# EAGLE library part USB-C (library psiboard)
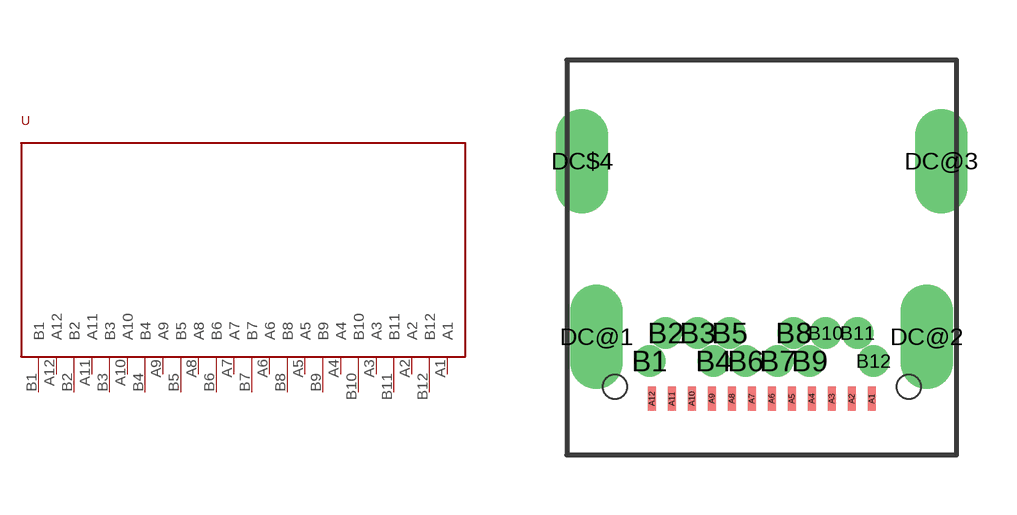
[diagram p0: symbol with the pads of USB-C; footprint USB-C]

Designator prefix -

## USB-C  [USB-C]
A1  A1
A2  A2
A3  A3
A4  A4
A5  A5
A6  A6
A7  A7
A8  A8
A9  A9
A10  A10
A11  A11
A12  A12
B1  B1
B2  B2
B3  B3
B4  B4
B5  B5
B6  B6
B7  B7
B8  B8
B9  B9
B10  B10
B11  B11
B12  B12

## Footprint USB-C (pad centres in mm)
smd 0.2 x 0.6: A1 7.625,1.4; A2 7.125,1.4; A3 6.625,1.4; A4 6.125,1.4; A5 5.625,1.4; A6 5.125,1.4; A7 4.625,1.4; A8 4.125,1.4; A9 3.625,1.4; A10 3.125,1.4; A11 2.625,1.4; A12 2.125,1.4
drill 0.28 pad 0.6: B1 2.075,2.35; B2 2.475,3.05; B3 3.275,3.05; B4 3.675,2.35; B5 4.075,3.05; B6 4.475,2.35; B7 5.275,2.35; B8 5.675,3.05; B9 6.075,2.35; B10 6.475,3.05; B11 7.275,3.05; B12 7.675,2.35
drill 0.8 pad 1 long: DC$4 0.385,7.34; DC@1 0.745,2.95; DC@2 9.005,2.95; DC@3 9.365,7.34
hole 0.6 at 1.2,1.7
hole 0.6 at 8.55,1.7